# EAGLE library part SI5332A-GM1 (library VNA)
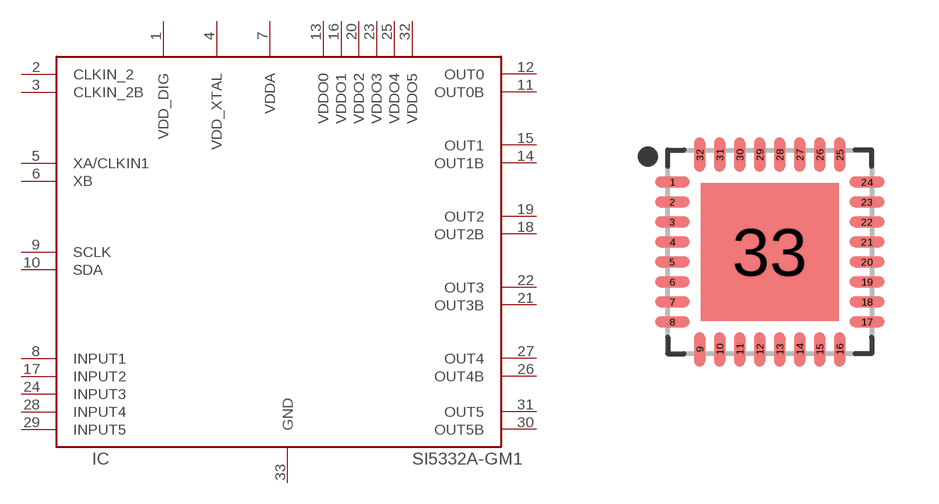
[diagram p21: symbol with the pads of QFN50P500X500X100-33T345N; footprint QFN50P500X500X100-33T345N]

Designator prefix IC

## SI5332A-GM1  [QFN50P500X500X100-33T345N]
1  VDD_DIG  pwr
2  CLKIN_2  in
3  CLKIN_2B  in
4  VDD_XTAL  pwr
5  XA/CLKIN1  in
6  XB  in
7  VDDA  pwr
8  INPUT1  in
9  SCLK  in
10  SDA
11  OUT0B  out
12  OUT0  out
13  VDDO0  pwr
14  OUT1B  out
15  OUT1  out
16  VDDO1  pwr
17  INPUT2  in
18  OUT2B  out
19  OUT2  out
20  VDDO2  pwr
21  OUT3B  out
22  OUT3  out
23  VDDO3  pwr
24  INPUT3  in
25  VDDO4  pwr
26  OUT4B  out
27  OUT4  out
28  INPUT4  in
29  INPUT5  in
30  OUT5B  out
31  OUT5  out
32  VDDO5  pwr
33  GND

## Footprint QFN50P500X500X100-33T345N (pad centres in mm)
32-QFN, 0.50 mm pitch, 5.00 X 5.00 X 1.00 mm body, 3.45 X 3.45 mm thermal pad 32-pin QFN package with 0.50 mm pitch with body size 5.00 X 5.00 X 1.00 mm and thermal pad size 3.45 X 3.45 mm
smd 0.86 x 0.27: 1 -2.435,1.75; 2 -2.435,1.25; 3 -2.435,0.75; 4 -2.435,0.25; 5 -2.435,-0.25; 6 -2.435,-0.75; 7 -2.435,-1.25; 8 -2.435,-1.75; 17 2.435,-1.75; 18 2.435,-1.25; 19 2.435,-0.75; 20 2.435,-0.25; 21 2.435,0.25; 22 2.435,0.75; 23 2.435,1.25; 24 2.435,1.75
smd 0.27 x 0.86: 9 -1.75,-2.435; 10 -1.25,-2.435; 11 -0.75,-2.435; 12 -0.25,-2.435; 13 0.25,-2.435; 14 0.75,-2.435; 15 1.25,-2.435; 16 1.75,-2.435; 25 1.75,2.435; 26 1.25,2.435; 27 0.75,2.435; 28 0.25,2.435; 29 -0.25,2.435; 30 -0.75,2.435; 31 -1.25,2.435; 32 -1.75,2.435
smd 3.45 x 3.45: 33 0,0